# Altium schematic symbol library SCH - ADC - ADA4940-1ARZ.SCHLIB: 1 symbol
Pins are listed as number, name and electrical type; pins without a type are passive.

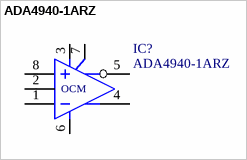
[diagram p0: symbol ADA4940-1ARZ]

## ADA4940-1ARZ
designator IC?
Fully Differential ADC Drivers (-40-125°C); Manufacturer: ANALOG DEVICES; Class I: Analog; Best.-Nr.: Farnell 209-6178; Class II: Fully Differential ADC Drivers (-40-125°C); Datasheet: DSO11449, Ver. Aug 2000; Last edited: 04.01.2007 10:14; Package Reference: SOIC-N-8
footprint SOIC-8-N (SMD Small Outline IC 8 pin Narrow)
pins: 1 -, 2 OCM, 3 V+, 4 Out, 5 Out, 6 V-, 7 EN, 8 +